# Altium schematic symbol library Reference_Voltage.SchLib: 263 symbols (part 3 of 3)
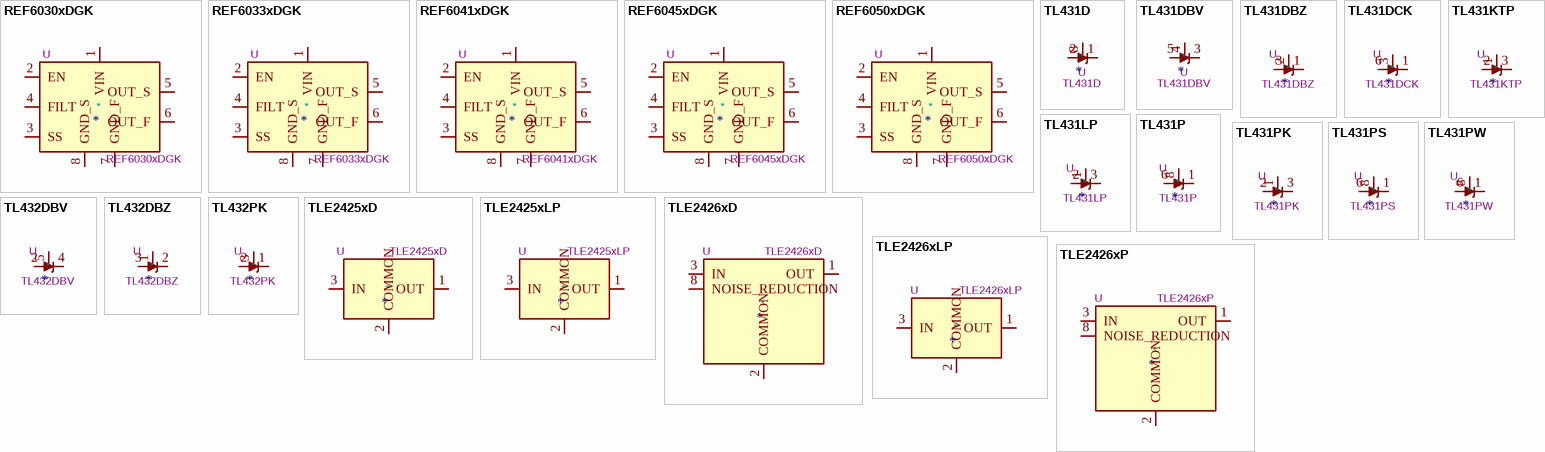
[diagram p8: symbols REF6030xDGK to TLE2426xP]

## TL432DBV
designator *  value TL432DBV  Reference: U
ki_keywords: diode device shunt regulator; ki_description: Shunt Regulator, SOT-23-5; ki_fp_filters: SOT?23?5*; Footprint: Package_TO_SOT_SMD:SOT-23-5; Datasheet: http://www.ti.com/lit/ds/symlink/tl431.pdf
pins: 2 A, 4 K, 5 REF

## TL432DBZ
designator *  value TL432DBZ  Reference: U
ki_keywords: diode device shunt regulator; ki_description: Shunt Regulator, SOT-23; ki_fp_filters: SOT?23*; Footprint: Package_TO_SOT_SMD:SOT-23; Datasheet: http://www.ti.com/lit/ds/symlink/tl431.pdf
pins: 1 REF, 2 K, 3 A

## TL432PK
designator *  value TL432PK  Reference: U
ki_keywords: diode device shunt regulator; ki_description: Shunt Regulator, SOT-89; ki_fp_filters: SOT*89*; Footprint: Package_TO_SOT_SMD:SOT-89-3; Datasheet: http://www.ti.com/lit/ds/symlink/tl431.pdf
pins: 1 K, 2 A, 3 REF

## TLE2425xD
designator *  value TLE2425xD  Reference: U
ki_keywords: Rail splitter precision virtual ground 2.5V; ki_description: Precision virtual ground, 2.5V output, SOIC-8; ki_fp_filters: SOIC*3.9x4.9mm*P1.27mm*; Footprint: Package_SO:SOIC-8_3.9x4.9mm_P1.27mm; Datasheet: http://www.ti.com/lit/ds/symlink/tle2425.pdf
pins: 1 OUT, 2 COMMON, 3 IN, 4 NC hidden, 5 NC hidden, 6 NC hidden, 7 NC hidden, 8 NC hidden

## TLE2425xLP
designator *  value TLE2425xLP  Reference: U
ki_keywords: Rail splitter precision virtual ground 2.5V; ki_description: Precision virtual ground, 2.5V output, TO-92; ki_fp_filters: TO?92*; Datasheet: http://www.ti.com/lit/ds/symlink/tle2425.pdf
pins: 1 OUT, 2 COMMON, 3 IN

## TLE2426xD
designator *  value TLE2426xD  Reference: U
ki_keywords: Rail splitter precision virtual ground; ki_description: Precision virtual ground, noise reduction pin, 4V to 40V input, SOIC-8; ki_fp_filters: SOIC*3.9x4.9mm*P1.27mm*; Footprint: Package_SO:SOIC-8_3.9x4.9mm_P1.27mm; Datasheet: http://www.ti.com/lit/ds/symlink/tle2426.pdf
pins: 1 OUT, 2 COMMON, 3 IN, 4 NC hidden, 5 NC hidden, 6 NC hidden, 7 NC hidden, 8 NOISE_REDUCTION

## TLE2426xLP
designator *  value TLE2426xLP  Reference: U
ki_keywords: Rail splitter precision virtual ground; ki_description: Precision virtual ground, 4V to 40V input, TO-92; ki_fp_filters: TO?92*; Datasheet: http://www.ti.com/lit/ds/symlink/tle2426.pdf
pins: 1 OUT, 2 COMMON, 3 IN

## TLE2426xP
designator *  value TLE2426xP  Reference: U
ki_keywords: Rail splitter precision vitrual ground; ki_description: Precision virtual ground, noise reduction pin, 4V to 40V input, DIP-8; ki_fp_filters: DIP*W7.62mm*; Footprint: Package_DIP:DIP-8_W7.62mm; Datasheet: http://www.ti.com/lit/ds/symlink/tle2426.pdf
pins: 1 OUT, 2 COMMON, 3 IN, 4 NC hidden, 5 NC hidden, 6 NC hidden, 7 NC hidden, 8 NOISE_REDUCTION